# Altium schematic symbol library 2020-01-26_18-06-58.SchLib: 2 symbols
Pins are listed as number, name and electrical type; pins without a type are passive.

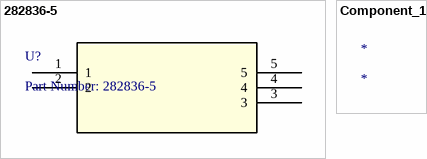
[diagram p0: symbols 282836-5 to Component_1]

## 282836-5
designator U?, comment Part Number: 282836-5
No Description Available; Vendor: TE Connectivity; Built_By: EMA_UL_Team; Manufacturer_Part_Number: 282836-5; Copyright: Copyright (C) 2018 Accelerated Designs. All rights reserved; RefDes: RefDes; Type: DEV; Value: Value
footprint 282836-5
pins: 1, 2, 3, 4, 5

## Component_1
designator *